# Altium footprint library SparkFun-Boards.PCBLIB: 38 footprints (part 1 of 3)
Each footprint in its own frame and in the unit in brackets; x right, y up, seen from the top. Pads: shape width x height; smd on the part's side, far side on the other; paste and mask are expansions set on the pad; w line width, h text height; cw(c..) or ccw(c..) is an arc to the next point about the centre after c.
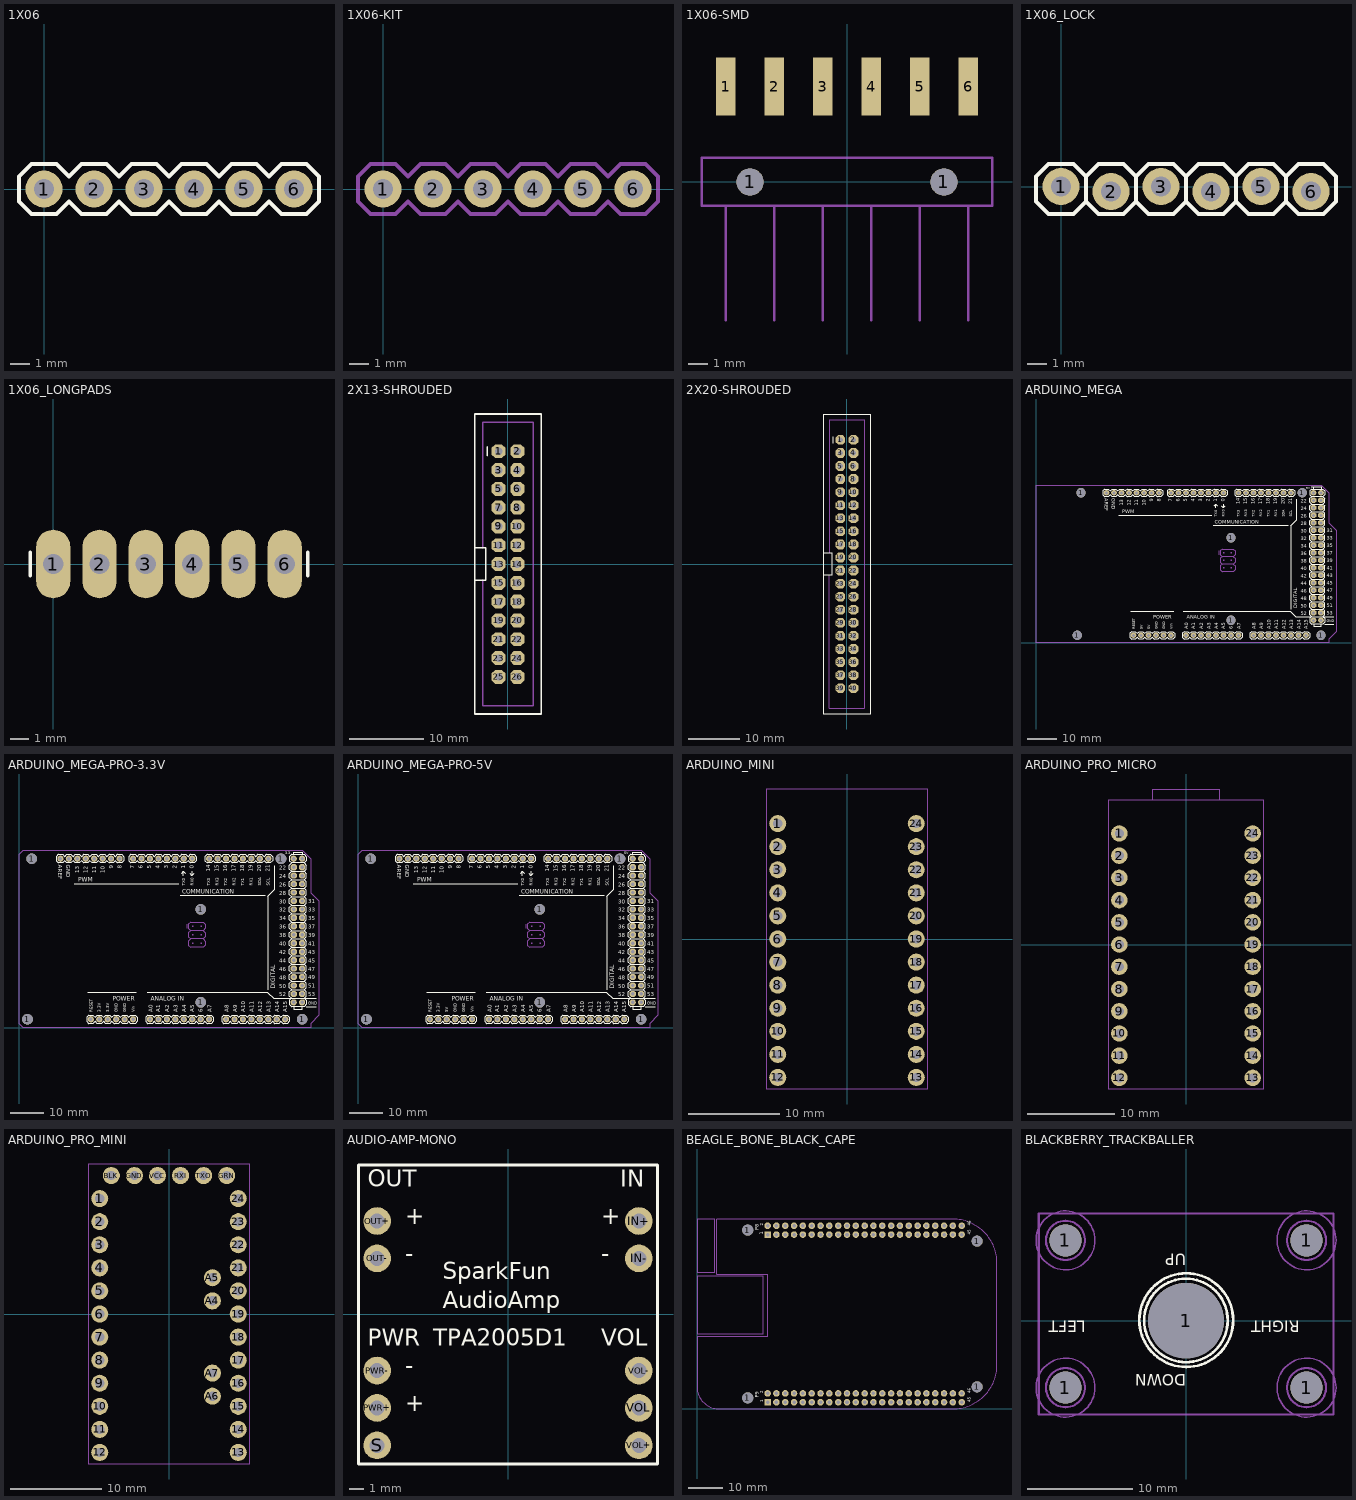
[diagram p0: the footprints below, top view; thin cyan lines are the x and y axes]

## 1X06 [mil]
pads (6):
  round 74 hole 40: 1(0,0) 2(100,0) 3(200,0) 4(300,0) 5(400,0) 6(500,0)
Top Overlay:
  lines w8: -50,-25 -50,25 -25,50 25,50 50,25 75,50 125,50 150,25 175,50 225,50 250,25 275,50 325,50 350,25 375,50 425,50 450,25 475,50 525,50 550,25 550,-25 525,-50 475,-50 450,-25 425,-50 375,-50 350,-25 325,-50 275,-50 250,-25 225,-50 175,-50 150,-25 125,-50 75,-50 50,-25 25,-50 -25,-50 -50,-25
Mechanical 16:
  rectangle: 490,-10 510,10
  rectangle: 390,-10 410,10
  rectangle: 290,-10 310,10
  rectangle: 190,-10 210,10
  rectangle: 90,-10 110,10
  rectangle: -10,-10 10,10

## 1X06-KIT [mil]
pads (6):
  round 74 hole 40: 1(0,0) 2(100,0) 3(200,0) 4(300,0) 5(400,0) 6(500,0)
Top Solder:
  region: 0,0 10,0 10,10 0,10
  region: 0,0 10,0 10,10 0,10
  region: 0,0 10,0 10,10 0,10
  region: 0,0 10,0 10,10 0,10
  region: 0,0 10,0 10,10 0,10
  region: 0,0 10,0 10,10 0,10
Bottom Solder:
  region: 0,0 10,0 10,10 0,10
  region: 0,0 10,0 10,10 0,10
  region: 0,0 10,0 10,10 0,10
  region: 0,0 10,0 10,10 0,10
  region: 0,0 10,0 10,10 0,10
  region: 0,0 10,0 10,10 0,10
Mechanical 16:
  rectangle: 490,-10 510,10
  rectangle: 390,-10 410,10
  rectangle: 290,-10 310,10
  rectangle: 190,-10 210,10
  rectangle: 90,-10 110,10
  rectangle: -10,-10 10,10
  lines w8: -50,-25 -50,25 -25,50 25,50 50,25 75,50 125,50 150,25 175,50 225,50 250,25 275,50 325,50 350,25 375,50 425,50 450,25 475,50 525,50 550,25 550,-25 525,-50 475,-50 450,-25 425,-50 375,-50 350,-25 325,-50 275,-50 250,-25 225,-50 175,-50 150,-25 125,-50 75,-50 50,-25 25,-50 -25,-50 -50,-25

## 1X06-SMD [mil]
pads (8):
  rect 40x119 smd: 1(-250,197) 2(-150,197) 3(-50,197) 4(50,197) 5(150,197) 6(250,197)
  round 56 hole 56: 1(-200,0) 1(200,0)
Mechanical 16:
  lines w5: -250,-285.43 -250,-49.21 ; -150,-285.43 -150,-49.21 ; -50,-285.43 -50,-49.21 ; 50,-285.43 50,-49.21 ; 150,-285.43 150,-49.21 ; 250,-285.43 250,-49.21 ; -250,-49.21 -300,-49.21 -300,50 300,50 300,-49.21 250,-49.21 ; -250,-49.21 -150,-49.21 ; -150,-49.21 -50,-49.21 ; -50,-49.21 50,-49.21 ; 50,-49.21 150,-49.21 ; 150,-49.21 250,-49.21

## 1X06_LOCK [mil]
pads (6):
  round 74 hole 40: 1(0,0) 2(100,-10) 3(200,0) 4(300,-10) 5(400,0) 6(500,-10)
Top Overlay:
  lines w8: 50,-30 75,-55 125,-55 150,-30 ; 50,-30 25,-55 -25,-55 -50,-30 -50,20 -25,45 25,45 50,20 ; 50,-30 50,20 ; 50,20 75,45 125,45 150,20 ; 150,-30 175,-55 225,-55 250,-30 ; 150,-30 150,20 ; 150,20 175,45 225,45 250,20 ; 250,-30 275,-55 325,-55 350,-30 ; 250,-30 250,20 ; 250,20 275,45 325,45 350,20 ; 350,-30 375,-55 425,-55 450,-30 ; 350,-30 350,20 ; 350,20 375,45 425,45 450,20 ; 450,-30 475,-55 525,-55 550,-30 550,20 525,45 475,45 450,20 ; 450,-30 450,20
Mechanical 16:
  rectangle: -11.5,-16.5 12,7
  rectangle: 89,-16.5 112,7
  rectangle: 189,-16.5 212,7
  rectangle: 289,-16.5 312,7
  rectangle: 389,-16.5 412,7
  rectangle: 489,-16.5 512,7

## 1X06_LONGPADS [mil]
pads (6):
  oval 74x148 hole 44: 1(0,0) 2(100,0) 3(200,0) 4(300,0) 5(400,0) 6(500,0)
Top Overlay:
  lines w8: -50,-25 -50,25 ; 550,-25 550,25
Mechanical 16:
  rectangle: 490,-10 510,10
  rectangle: 390,-10 410,10
  rectangle: 290,-10 310,10
  rectangle: 190,-10 210,10
  rectangle: 90,-10 110,10
  rectangle: -10,-10 10,10

## 2X13-SHROUDED [mil]
pads (26):
  oct 74x74 hole 40: 1(-50,600) 2(50,600) 3(-50,500) 4(50,500) 5(-50,400) 6(50,400) 7(-50,300) 8(50,300) 9(-50,200) 10(50,200) 11(-50,100) 12(50,100) 13(-50,0) 14(50,0) 15(-50,-100) 16(50,-100) 17(-50,-200) 18(50,-200) 19(-50,-300) 20(50,-300) 21(-50,-400) 22(50,-400) 23(-50,-500) 24(50,-500) 25(-50,-600) 26(50,-600)
Top Overlay:
  lines w8: -109.25,575 -109.25,625 ; 174,798 -177.17,798 -177.17,87 ; 178,798 178,-797.64 -177.17,-797.64 -177.17,-86.61 ; -177.17,-86.61 -177.17,87 ; -177.17,-86.61 -118.11,-86.61 -118.11,87 -177.17,87
Mechanical 16:
  rectangle: -60,590 -40,610
  rectangle: 40,590 60,610
  rectangle: 40,490 60,510
  rectangle: -60,490 -40,510
  rectangle: 40,390 60,410
  rectangle: -60,390 -40,410
  rectangle: 40,290 60,310
  rectangle: -60,290 -40,310
  rectangle: 40,190 60,210
  rectangle: -60,190 -40,210
  rectangle: -60,290 -40,310
  rectangle: 40,290 60,310
  rectangle: -60,90 -40,110
  rectangle: 40,90 60,110
  rectangle: 40,-10 60,10
  rectangle: -60,-10 -40,10
  rectangle: 40,-110 60,-90
  rectangle: -60,-110 -40,-90
  rectangle: 40,-210 60,-190
  rectangle: -60,-210 -40,-190
  rectangle: 40,-310 60,-290
  rectangle: -60,-310 -40,-290
  rectangle: -60,-210 -40,-190
  rectangle: 40,-210 60,-190
  rectangle: 40,-410 60,-390
  rectangle: -60,-410 -40,-390
  rectangle: 40,-510 60,-490
  rectangle: -60,-510 -40,-490
  rectangle: 40,-610 60,-590
  rectangle: -60,-610 -40,-590
  rectangle: -60,-510 -40,-490
  rectangle: 40,-510 60,-490
  lines w8: -133.86,-86.61 -133.86,-754.33 134,-754.33 134,755 -133.86,755 -133.86,87

## 2X20-SHROUDED [mil]
pads (40):
  oct 74x74 hole 40: 1(-50,950) 2(50,950) 3(-50,850) 4(50,850) 5(-50,750) 6(50,750) 7(-50,650) 8(50,650) 9(-50,550) 10(50,550) 11(-50,450) 12(50,450) 13(-50,350) 14(50,350) 15(-50,250) 16(50,250) 17(-50,150) 18(50,150) 19(-50,50) 20(50,50) 21(-50,-50) 22(50,-50) 23(-50,-150) 24(50,-150) 25(-50,-250) 26(50,-250) 27(-50,-350) 28(50,-350) 29(-50,-450) 30(50,-450) 31(-50,-550) 32(50,-550) 33(-50,-650) 34(50,-650) 35(-50,-750) 36(50,-750) 37(-50,-850) 38(50,-850) 39(-50,-950) 40(50,-950)
Top Overlay:
  lines w8: -177.17,-86.61 -118.11,-86.61 -118.11,87 -177.17,87 ; -109.25,925 -109.25,975 ; 174,1148 -177.17,1148 -177.17,-1147.64 178,-1147.64 178,1148
Mechanical 16:
  rectangle: -60,940 -40,960
  rectangle: 40,940 60,960
  rectangle: 40,840 60,860
  rectangle: -60,840 -40,860
  rectangle: 40,740 60,760
  rectangle: -60,740 -40,760
  rectangle: 40,640 60,660
  rectangle: -60,640 -40,660
  rectangle: 40,540 60,560
  rectangle: -60,540 -40,560
  rectangle: -60,640 -40,660
  rectangle: 40,640 60,660
  rectangle: -60,440 -40,460
  rectangle: 40,440 60,460
  rectangle: 40,340 60,360
  rectangle: -60,340 -40,360
  rectangle: 40,240 60,260
  rectangle: -60,240 -40,260
  rectangle: 40,140 60,160
  rectangle: -60,140 -40,160
  rectangle: 40,40 60,60
  rectangle: -60,40 -40,60
  rectangle: -60,140 -40,160
  rectangle: 40,140 60,160
  rectangle: 40,-60 60,-40
  rectangle: -60,-60 -40,-40
  rectangle: 40,-160 60,-140
  rectangle: -60,-160 -40,-140
  rectangle: 40,-260 60,-240
  rectangle: -60,-260 -40,-240
  rectangle: -60,-160 -40,-140
  rectangle: 40,-160 60,-140
  rectangle: 40,-360 60,-340
  rectangle: 40,-460 60,-440
  rectangle: 40,-560 60,-540
  rectangle: 40,-660 60,-640
  rectangle: 40,-760 60,-740
  rectangle: 40,-860 60,-840
  rectangle: 40,-960 60,-940
  rectangle: -60,-360 -40,-340
  rectangle: -60,-460 -40,-440
  rectangle: -60,-560 -40,-540
  rectangle: -60,-660 -40,-640
  rectangle: -60,-760 -40,-740
  rectangle: -60,-860 -40,-840
  rectangle: -60,-960 -40,-940
  lines w8: -133.86,-86.61 -133.86,-1104.33 134,-1104.33 134,1105 -133.86,1105 -133.86,87

## ARDUINO_MEGA [mil]
pads (88):
  round 74 hole 40: 0(2500,2000) 1(2400,2000) 2(2300,2000) 3(2200,2000) 3.3V(1400,100) 4(2100,2000) 5(2000,2000) 5V@0(1500,100) 5V@1(3700,2000) 5V@2(3800,2000) 6(1900,2000) 7(1800,2000) 8(1640,2000) 9(1540,2000) 10(1440,2000) 11(1340,2000) 12(1240,2000) 13(1140,2000) 14(2700,2000) 15(2800,2000) 16(2900,2000) 17(3000,2000) 18(3100,2000) 19(3200,2000) 20(3300,2000) 21(3400,2000) A0(2000,100) A1(2100,100) A2(2200,100) A3(2300,100) A4(2400,100) A5(2500,100) A6(2600,100) A7(2700,100) A8(2900,100) A9(3000,100) A10(3100,100) A11(3200,100) A12(3300,100) A13(3400,100) A14(3500,100) A15(3600,100) AREF(940,2000) GND@0(1600,100) GND@1(1700,100) GND@2(3700,300) GND@3(3800,300) GND@4(1040,2000) RESET(1300,100) VIN(1800,100)
  round 126 hole 126: 1(550,100) 1(600,2000) 1(2600,300) 1(2600,1400) 1(3550,2000) 1(3800,100)
  oct 74x74 hole 40: 22(3700,1900) 23(3800,1900) 24(3700,1800) 25(3800,1800) 26(3700,1700) 27(3800,1700) 28(3700,1600) 29(3800,1600) 30(3700,1500) 31(3800,1500) 32(3700,1400) 33(3800,1400) 34(3700,1300) 35(3800,1300) 36(3700,1200) 37(3800,1200) 38(3700,1100) 39(3800,1100) 40(3700,1000) 41(3800,1000) 42(3700,900) 43(3800,900) 44(3700,800) 45(3800,800) 46(3700,700) 47(3800,700) 48(3700,600) 49(3800,600) 50(3700,500) 51(3800,500) 52(3700,400) 53(3800,400)
Top Overlay:
  drawing of 438 lines, arcs and shapes, not listed
  text "0" at 2515,1880 h47.6
  text "1" at 2415,1880 h47.6
  text "2" at 2315,1880 h47.6
  text "3" at 2215,1880 h47.6
  text "4" at 2115,1880 h47.6
  text "5" at 2015,1880 h47.6
  text "6" at 1915,1880 h47.6
  text "7" at 1815,1880 h47.6
  text "8" at 1665,1880 h47.6
  text "9" at 1565,1880 h47.6
  text "10" at 1465,1830 h47.6
  text "11" at 1365,1830 h47.6
  text "12" at 1265,1830 h47.6
  text "13" at 1165,1830 h47.6
  text "14" at 2715,1845 h47.6
  text "15" at 2815,1845 h47.6
  text "16" at 2915,1845 h47.6
  text "17" at 3015,1845 h47.6
  text "18" at 3115,1845 h47.6
  text "19" at 3215,1845 h47.6
  text "20" at 3315,1845 h47.6
  text "21" at 3415,1845 h47.6
  text "22" at 3531,1870 h47.6
  text "24" at 3531,1770 h47.6
  text "26" at 3531,1670 h47.6
  text "28" at 3531,1570 h47.6
  text "30" at 3531,1470 h47.6
  text "32" at 3531,1370 h47.6
  text "34" at 3531,1270 h47.6
  text "36" at 3531,1170 h47.6
  text "38" at 3531,1070 h47.6
  text "40" at 3531,970 h47.6
  text "42" at 3531,870 h47.6
  text "44" at 3531,770 h47.6
  text "46" at 3531,670 h47.6
  text "50" at 3531,470 h47.6
  text "48" at 3531,570 h47.6
  text "52" at 3531,370 h47.6
  text "31" at 3875,1471 h47.6
  text "33" at 3875,1371 h47.6
  text "35" at 3875,1271 h47.6
  text "37" at 3875,1171 h47.6
  text "39" at 3875,1071 h47.6
  text "41" at 3875,971 h47.6
  text "43" at 3875,871 h47.6
  text "45" at 3875,771 h47.6
  text "47" at 3875,671 h47.6
  text "49" at 3875,571 h47.6
  text "51" at 3875,471 h47.6
  text "53" at 3875,371 h47.6
  text "A0" at 2030,181 h47.6
  text "A1" at 2120,181 h47.6
  text "A2" at 2230,181 h47.6
  text "A3" at 2330,181 h47.6
  text "A4" at 2430,181 h47.6
  text "A5" at 2525,181 h47.6
  text "6" at 2625,181 h47.6
  text "A7" at 2730,181 h47.6
  text "A8" at 2930,181 h47.6
  text "A9" at 3030,181 h47.6
  text "A10" at 3130,181 h47.6
  text "A11" at 3230,181 h47.6
  text "A12" at 3330,181 h47.6
  text "A13" at 3430,181 h47.6
  text "A14" at 3530,181 h47.6
  text "A15" at 3625,181 h47.6
  text "ANALOG IN" at 2010,320 h51
  text "COMMUNICATION" at 2380,1585 h51
  text "DIGITAL" at 3485,460 h51
  text "GND" at 3875,271 h34
  text "TX0" at 2415,1680 h34
  text "RX0" at 2515,1680 h34
  text "PWM" at 1150,1725 h51
  text "TX3" at 2715,1680 h34
  text "RX3" at 2815,1680 h34
  text "TX2" at 2915,1680 h34
  text "RX2" at 3015,1680 h34
  text "TX1" at 3115,1680 h34
  text "RX1" at 3215,1680 h34
  text "SDA" at 3315,1680 h34
  text "SCL" at 3415,1680 h34
  text "POWER" at 1560,320 h51
  text "RESET" at 1320,181 h34
  text "5V" at 1420,181 h34
  text "5V" at 1520,181 h34
  text "GND" at 1620,181 h34
  text "GND" at 1720,181 h34
  text "Vin" at 1820,181 h34
  text "GND" at 1010,1930 h47.6
  text "AREF" at 915,1930 h47.6
  text "5V" at 3600,2050 h29.75
Mechanical 16:
  rectangle: 3490,90 3510,110
  rectangle: 3390,90 3410,110
  rectangle: 3290,90 3310,110
  rectangle: 3190,90 3210,110
  rectangle: 3090,90 3110,110
  rectangle: 2990,90 3010,110
  rectangle: 2890,90 2910,110
  rectangle: 3590,90 3610,110
  rectangle: 3290,1990 3310,2010
  rectangle: 3190,1990 3210,2010
  rectangle: 3090,1990 3110,2010
  rectangle: 2990,1990 3010,2010
  rectangle: 2890,1990 2910,2010
  rectangle: 2790,1990 2810,2010
  rectangle: 2690,1990 2710,2010
  rectangle: 3390,1990 3410,2010
  rectangle: 2590,90 2610,110
  rectangle: 2490,90 2510,110
  rectangle: 2390,90 2410,110
  rectangle: 2290,90 2310,110
  rectangle: 2190,90 2210,110
  rectangle: 2090,90 2110,110
  rectangle: 1990,90 2010,110
  rectangle: 2690,90 2710,110
  rectangle: 2390,1990 2410,2010
  rectangle: 2290,1990 2310,2010
  rectangle: 2190,1990 2210,2010
  rectangle: 2090,1990 2110,2010
  rectangle: 1990,1990 2010,2010
  rectangle: 1890,1990 1910,2010
  rectangle: 1790,1990 1810,2010
  rectangle: 2490,1990 2510,2010
  rectangle: 1530,1990 1550,2010
  rectangle: 1430,1990 1450,2010
  rectangle: 1330,1990 1350,2010
  rectangle: 1230,1990 1250,2010
  rectangle: 1130,1990 1150,2010
  rectangle: 1030,1990 1050,2010
  rectangle: 930,1990 950,2010
  rectangle: 1630,1990 1650,2010
  region: 2495,1210 2495,1190 2515,1190 2515,1210
  region: 2595,1210 2595,1190 2615,1190 2615,1210
  region: 2595,1110 2595,1090 2615,1090 2615,1110
  region: 2495,1110 2495,1090 2515,1090 2515,1110
  region: 2595,1010 2595,990 2615,990 2615,1010
  region: 2495,1010 2495,990 2515,990 2515,1010
  region: 3810,1190 3810,1210 3790,1210 3790,1190
  region: 3710,1190 3710,1210 3690,1210 3690,1190
  region: 3710,1290 3710,1310 3690,1310 3690,1290
  region: 3810,1290 3810,1310 3790,1310 3790,1290
  region: 3710,1390 3710,1410 3690,1410 3690,1390
  region: 3810,1390 3810,1410 3790,1410 3790,1390
  region: 3710,1490 3710,1510 3690,1510 3690,1490
  region: 3710,1590 3710,1610 3690,1610 3690,1590
  region: 3710,1690 3710,1710 3690,1710 3690,1690
  region: 3810,1490 3810,1510 3790,1510 3790,1490
  region: 3810,1590 3810,1610 3790,1610 3790,1590
  region: 3810,1690 3810,1710 3790,1710 3790,1690
  region: 3710,1790 3710,1810 3690,1810 3690,1790
  region: 3810,1790 3810,1810 3790,1810 3790,1790
  region: 3710,1890 3710,1910 3690,1910 3690,1890
  region: 3810,1890 3810,1910 3790,1910 3790,1890
  region: 3810,390 3810,410 3790,410 3790,390
  region: 3710,390 3710,410 3690,410 3690,390
  region: 3710,490 3710,510 3690,510 3690,490
  region: 3810,490 3810,510 3790,510 3790,490
  region: 3710,590 3710,610 3690,610 3690,590
  region: 3810,590 3810,610 3790,610 3790,590
  region: 3710,690 3710,710 3690,710 3690,690
  region: 3710,790 3710,810 3690,810 3690,790
  region: 3710,890 3710,910 3690,910 3690,890
  region: 3810,690 3810,710 3790,710 3790,690
  region: 3810,790 3810,810 3790,810 3790,790
  region: 3810,890 3810,910 3790,910 3790,890
  region: 3710,990 3710,1010 3690,1010 3690,990
  region: 3810,990 3810,1010 3790,1010 3790,990
  region: 3710,1090 3710,1110 3690,1110 3690,1090
  region: 3810,1090 3810,1110 3790,1110 3790,1090
  rectangle: 3790,290 3810,310
  rectangle: 3690,290 3710,310
  rectangle: 3790,1990 3810,2010
  rectangle: 3690,1990 3710,2010
  rectangle: 1790,90 1810,110
  rectangle: 1690,90 1710,110
  rectangle: 1590,90 1610,110
  rectangle: 1490,90 1510,110
  rectangle: 1390,90 1410,110
  rectangle: 1290,90 1310,110
  lines w8: 2442,1175 2442,1225 ; 2480,1050 2455,1075 2455,1125 2480,1150 ; 2480,1050 2455,1025 2455,975 2480,950 2630,950 2655,975 2655,1025 2630,1050 ; 2480,1050 2630,1050 ; 2480,1150 2455,1175 2455,1225 2480,1250 2630,1250 2655,1225 2655,1175 2630,1150 ; 2480,1150 2630,1150 ; 2630,1050 2655,1075 2655,1125 2630,1150 ; 0,0 3900,0 3900,50 4000,150 4000,1500 3900,1600 3900,2000 3800,2100 0,2100 0,0

## ARDUINO_MEGA-PRO-3.3V [mil]
pads (88):
  round 74 hole 40: 0(2050,2000) 1(1950,2000) 2(1850,2000) 3(1750,2000) 3.3V(950,100) 4(1650,2000) 5(1550,2000) 5V@0(1050,100) 5V@1(3250,2000) 5V@2(3350,2000) 6(1450,2000) 7(1350,2000) 8(1190,2000) 9(1090,2000) 10(990,2000) 11(890,2000) 12(790,2000) 13(690,2000) 14(2250,2000) 15(2350,2000) 16(2450,2000) 17(2550,2000) 18(2650,2000) 19(2750,2000) 20(2850,2000) 21(2950,2000) A0(1550,100) A1(1650,100) A2(1750,100) A3(1850,100) A4(1950,100) A5(2050,100) A6(2150,100) A7(2250,100) A8(2450,100) A9(2550,100) A10(2650,100) A11(2750,100) A12(2850,100) A13(2950,100) A14(3050,100) A15(3150,100) AREF(490,2000) GND@0(1150,100) GND@1(1250,100) GND@2(3250,300) GND@3(3350,300) GND@4(590,2000) RESET(850,100) VIN(1350,100)
  round 126 hole 126: 1(100,100) 1(150,2000) 1(2150,300) 1(2150,1400) 1(3100,2000) 1(3350,100)
  oct 74x74 hole 40: 22(3250,1900) 23(3350,1900) 24(3250,1800) 25(3350,1800) 26(3250,1700) 27(3350,1700) 28(3250,1600) 29(3350,1600) 30(3250,1500) 31(3350,1500) 32(3250,1400) 33(3350,1400) 34(3250,1300) 35(3350,1300) 36(3250,1200) 37(3350,1200) 38(3250,1100) 39(3350,1100) 40(3250,1000) 41(3350,1000) 42(3250,900) 43(3350,900) 44(3250,800) 45(3350,800) 46(3250,700) 47(3350,700) 48(3250,600) 49(3350,600) 50(3250,500) 51(3350,500) 52(3250,400) 53(3350,400)
Top Overlay:
  drawing of 437 lines, arcs and shapes, not listed
  text "0" at 2065,1880 h47.6
  text "1" at 1965,1880 h47.6
  text "2" at 1865,1880 h47.6
  text "3" at 1765,1880 h47.6
  text "4" at 1665,1880 h47.6
  text "5" at 1565,1880 h47.6
  text "6" at 1465,1880 h47.6
  text "7" at 1365,1880 h47.6
  text "8" at 1215,1880 h47.6
  text "9" at 1115,1880 h47.6
  text "10" at 1015,1830 h47.6
  text "11" at 915,1830 h47.6
  text "12" at 815,1830 h47.6
  text "13" at 715,1830 h47.6
  text "14" at 2265,1845 h47.6
  text "15" at 2365,1845 h47.6
  text "16" at 2465,1845 h47.6
  text "17" at 2565,1845 h47.6
  text "18" at 2665,1845 h47.6
  text "19" at 2765,1845 h47.6
  text "20" at 2865,1845 h47.6
  text "21" at 2965,1845 h47.6
  text "22" at 3081,1870 h47.6
  text "24" at 3081,1770 h47.6
  text "26" at 3081,1670 h47.6
  text "28" at 3081,1570 h47.6
  text "30" at 3081,1470 h47.6
  text "32" at 3081,1370 h47.6
  text "34" at 3081,1270 h47.6
  text "36" at 3081,1170 h47.6
  text "38" at 3081,1070 h47.6
  text "40" at 3081,970 h47.6
  text "42" at 3081,870 h47.6
  text "44" at 3081,770 h47.6
  text "46" at 3081,670 h47.6
  text "50" at 3081,470 h47.6
  text "48" at 3081,570 h47.6
  text "52" at 3081,370 h47.6
  text "31" at 3425,1471 h47.6
  text "33" at 3425,1371 h47.6
  text "35" at 3425,1271 h47.6
  text "37" at 3425,1171 h47.6
  text "39" at 3425,1071 h47.6
  text "41" at 3425,971 h47.6
  text "43" at 3425,871 h47.6
  text "45" at 3425,771 h47.6
  text "47" at 3425,671 h47.6
  text "49" at 3425,571 h47.6
  text "51" at 3425,471 h47.6
  text "53" at 3425,371 h47.6
  text "A0" at 1580,181 h47.6
  text "A1" at 1670,181 h47.6
  text "A2" at 1780,181 h47.6
  text "A3" at 1880,181 h47.6
  text "A4" at 1980,181 h47.6
  text "A5" at 2075,181 h47.6
  text "6" at 2175,181 h47.6
  text "A7" at 2280,181 h47.6
  text "A8" at 2480,181 h47.6
  text "A9" at 2580,181 h47.6
  text "A10" at 2680,181 h47.6
  text "A11" at 2780,181 h47.6
  text "A12" at 2880,181 h47.6
  text "A13" at 2980,181 h47.6
  text "A14" at 3080,181 h47.6
  text "A15" at 3175,181 h47.6
  text "ANALOG IN" at 1560,320 h51
  text "COMMUNICATION" at 1930,1585 h51
  text "DIGITAL" at 3035,460 h51
  text "GND" at 3425,271 h34
  text "TX0" at 1965,1680 h34
  text "RX0" at 2065,1680 h34
  text "PWM" at 700,1725 h51
  text "TX3" at 2265,1680 h34
  text "RX3" at 2365,1680 h34
  text "TX2" at 2465,1680 h34
  text "RX2" at 2565,1680 h34
  text "TX1" at 2665,1680 h34
  text "RX1" at 2765,1680 h34
  text "SDA" at 2865,1680 h34
  text "SCL" at 2965,1680 h34
  text "POWER" at 1110,320 h51
  text "RESET" at 870,181 h34
  text "3.3V" at 970,181 h34
  text "3.3V" at 1070,181 h34
  text "GND" at 1170,181 h34
  text "GND" at 1270,181 h34
  text "Vin" at 1370,181 h34
  text "GND" at 560,1930 h47.6
  text "AREF" at 465,1930 h47.6
  text "3.3" at 3150,2050 h29.75
Mechanical 16:
  rectangle: 3040,90 3060,110
  rectangle: 2940,90 2960,110
  rectangle: 2840,90 2860,110
  rectangle: 2740,90 2760,110
  rectangle: 2640,90 2660,110
  rectangle: 2540,90 2560,110
  rectangle: 2440,90 2460,110
  rectangle: 3140,90 3160,110
  rectangle: 2840,1990 2860,2010
  rectangle: 2740,1990 2760,2010
  rectangle: 2640,1990 2660,2010
  rectangle: 2540,1990 2560,2010
  rectangle: 2440,1990 2460,2010
  rectangle: 2340,1990 2360,2010
  rectangle: 2240,1990 2260,2010
  rectangle: 2940,1990 2960,2010
  rectangle: 2140,90 2160,110
  rectangle: 2040,90 2060,110
  rectangle: 1940,90 1960,110
  rectangle: 1840,90 1860,110
  rectangle: 1740,90 1760,110
  rectangle: 1640,90 1660,110
  rectangle: 1540,90 1560,110
  rectangle: 2240,90 2260,110
  rectangle: 1940,1990 1960,2010
  rectangle: 1840,1990 1860,2010
  rectangle: 1740,1990 1760,2010
  rectangle: 1640,1990 1660,2010
  rectangle: 1540,1990 1560,2010
  rectangle: 1440,1990 1460,2010
  rectangle: 1340,1990 1360,2010
  rectangle: 2040,1990 2060,2010
  rectangle: 1080,1990 1100,2010
  rectangle: 980,1990 1000,2010
  rectangle: 880,1990 900,2010
  rectangle: 780,1990 800,2010
  rectangle: 680,1990 700,2010
  rectangle: 580,1990 600,2010
  rectangle: 480,1990 500,2010
  rectangle: 1180,1990 1200,2010
  region: 2045,1210 2045,1190 2065,1190 2065,1210
  region: 2145,1210 2145,1190 2165,1190 2165,1210
  region: 2145,1110 2145,1090 2165,1090 2165,1110
  region: 2045,1110 2045,1090 2065,1090 2065,1110
  region: 2145,1010 2145,990 2165,990 2165,1010
  region: 2045,1010 2045,990 2065,990 2065,1010
  region: 3360,1190 3360,1210 3340,1210 3340,1190
  region: 3260,1190 3260,1210 3240,1210 3240,1190
  region: 3260,1290 3260,1310 3240,1310 3240,1290
  region: 3360,1290 3360,1310 3340,1310 3340,1290
  region: 3260,1390 3260,1410 3240,1410 3240,1390
  region: 3360,1390 3360,1410 3340,1410 3340,1390
  region: 3260,1490 3260,1510 3240,1510 3240,1490
  region: 3260,1590 3260,1610 3240,1610 3240,1590
  region: 3260,1690 3260,1710 3240,1710 3240,1690
  region: 3360,1490 3360,1510 3340,1510 3340,1490
  region: 3360,1590 3360,1610 3340,1610 3340,1590
  region: 3360,1690 3360,1710 3340,1710 3340,1690
  region: 3260,1790 3260,1810 3240,1810 3240,1790
  region: 3360,1790 3360,1810 3340,1810 3340,1790
  region: 3260,1890 3260,1910 3240,1910 3240,1890
  region: 3360,1890 3360,1910 3340,1910 3340,1890
  region: 3360,390 3360,410 3340,410 3340,390
  region: 3260,390 3260,410 3240,410 3240,390
  region: 3260,490 3260,510 3240,510 3240,490
  region: 3360,490 3360,510 3340,510 3340,490
  region: 3260,590 3260,610 3240,610 3240,590
  region: 3360,590 3360,610 3340,610 3340,590
  region: 3260,690 3260,710 3240,710 3240,690
  region: 3260,790 3260,810 3240,810 3240,790
  region: 3260,890 3260,910 3240,910 3240,890
  region: 3360,690 3360,710 3340,710 3340,690
  region: 3360,790 3360,810 3340,810 3340,790
  region: 3360,890 3360,910 3340,910 3340,890
  region: 3260,990 3260,1010 3240,1010 3240,990
  region: 3360,990 3360,1010 3340,1010 3340,990
  region: 3260,1090 3260,1110 3240,1110 3240,1090
  region: 3360,1090 3360,1110 3340,1110 3340,1090
  rectangle: 3340,290 3360,310
  rectangle: 3240,290 3260,310
  rectangle: 3340,1990 3360,2010
  rectangle: 3240,1990 3260,2010
  rectangle: 1340,90 1360,110
  rectangle: 1240,90 1260,110
  rectangle: 1140,90 1160,110
  rectangle: 1040,90 1060,110
  rectangle: 940,90 960,110
  rectangle: 840,90 860,110
  lines w8: 1992,1175 1992,1225 ; 2030,1050 2005,1075 2005,1125 2030,1150 ; 2030,1050 2005,1025 2005,975 2030,950 2180,950 2205,975 2205,1025 2180,1050 ; 2030,1050 2180,1050 ; 2030,1150 2005,1175 2005,1225 2030,1250 2180,1250 2205,1225 2205,1175 2180,1150 ; 2030,1150 2180,1150 ; 2180,1050 2205,1075 2205,1125 2180,1150 ; 0,50 50,0 3450,0 3450,50 3550,150 3550,1500 3450,1600 3450,2000 3350,2100 50,2100 0,2050 0,50

## ARDUINO_MEGA-PRO-5V [mil]
pads (88):
  round 74 hole 40: 0(2050,2000) 1(1950,2000) 2(1850,2000) 3(1750,2000) 3.3V(950,100) 4(1650,2000) 5(1550,2000) 5V@0(1050,100) 5V@1(3250,2000) 5V@2(3350,2000) 6(1450,2000) 7(1350,2000) 8(1190,2000) 9(1090,2000) 10(990,2000) 11(890,2000) 12(790,2000) 13(690,2000) 14(2250,2000) 15(2350,2000) 16(2450,2000) 17(2550,2000) 18(2650,2000) 19(2750,2000) 20(2850,2000) 21(2950,2000) A0(1550,100) A1(1650,100) A2(1750,100) A3(1850,100) A4(1950,100) A5(2050,100) A6(2150,100) A7(2250,100) A8(2450,100) A9(2550,100) A10(2650,100) A11(2750,100) A12(2850,100) A13(2950,100) A14(3050,100) A15(3150,100) AREF(490,2000) GND@0(1150,100) GND@1(1250,100) GND@2(3250,300) GND@3(3350,300) GND@4(590,2000) RESET(850,100) VIN(1350,100)
  round 126 hole 126: 1(100,100) 1(150,2000) 1(2150,300) 1(2150,1400) 1(3100,2000) 1(3350,100)
  oct 74x74 hole 40: 22(3250,1900) 23(3350,1900) 24(3250,1800) 25(3350,1800) 26(3250,1700) 27(3350,1700) 28(3250,1600) 29(3350,1600) 30(3250,1500) 31(3350,1500) 32(3250,1400) 33(3350,1400) 34(3250,1300) 35(3350,1300) 36(3250,1200) 37(3350,1200) 38(3250,1100) 39(3350,1100) 40(3250,1000) 41(3350,1000) 42(3250,900) 43(3350,900) 44(3250,800) 45(3350,800) 46(3250,700) 47(3350,700) 48(3250,600) 49(3350,600) 50(3250,500) 51(3350,500) 52(3250,400) 53(3350,400)
Top Overlay:
  drawing of 437 lines, arcs and shapes, not listed
  text "0" at 2065,1880 h47.6
  text "1" at 1965,1880 h47.6
  text "2" at 1865,1880 h47.6
  text "3" at 1765,1880 h47.6
  text "4" at 1665,1880 h47.6
  text "5" at 1565,1880 h47.6
  text "6" at 1465,1880 h47.6
  text "7" at 1365,1880 h47.6
  text "8" at 1215,1880 h47.6
  text "9" at 1115,1880 h47.6
  text "10" at 1015,1830 h47.6
  text "11" at 915,1830 h47.6
  text "12" at 815,1830 h47.6
  text "13" at 715,1830 h47.6
  text "14" at 2265,1845 h47.6
  text "15" at 2365,1845 h47.6
  text "16" at 2465,1845 h47.6
  text "17" at 2565,1845 h47.6
  text "18" at 2665,1845 h47.6
  text "19" at 2765,1845 h47.6
  text "20" at 2865,1845 h47.6
  text "21" at 2965,1845 h47.6
  text "22" at 3081,1870 h47.6
  text "24" at 3081,1770 h47.6
  text "26" at 3081,1670 h47.6
  text "28" at 3081,1570 h47.6
  text "30" at 3081,1470 h47.6
  text "32" at 3081,1370 h47.6
  text "34" at 3081,1270 h47.6
  text "36" at 3081,1170 h47.6
  text "38" at 3081,1070 h47.6
  text "40" at 3081,970 h47.6
  text "42" at 3081,870 h47.6
  text "44" at 3081,770 h47.6
  text "46" at 3081,670 h47.6
  text "50" at 3081,470 h47.6
  text "48" at 3081,570 h47.6
  text "52" at 3081,370 h47.6
  text "31" at 3425,1471 h47.6
  text "33" at 3425,1371 h47.6
  text "35" at 3425,1271 h47.6
  text "37" at 3425,1171 h47.6
  text "39" at 3425,1071 h47.6
  text "41" at 3425,971 h47.6
  text "43" at 3425,871 h47.6
  text "45" at 3425,771 h47.6
  text "47" at 3425,671 h47.6
  text "49" at 3425,571 h47.6
  text "51" at 3425,471 h47.6
  text "53" at 3425,371 h47.6
  text "A0" at 1580,181 h47.6
  text "A1" at 1670,181 h47.6
  text "A2" at 1780,181 h47.6
  text "A3" at 1880,181 h47.6
  text "A4" at 1980,181 h47.6
  text "A5" at 2075,181 h47.6
  text "6" at 2175,181 h47.6
  text "A7" at 2280,181 h47.6
  text "A8" at 2480,181 h47.6
  text "A9" at 2580,181 h47.6
  text "A10" at 2680,181 h47.6
  text "A11" at 2780,181 h47.6
  text "A12" at 2880,181 h47.6
  text "A13" at 2980,181 h47.6
  text "A14" at 3080,181 h47.6
  text "A15" at 3175,181 h47.6
  text "ANALOG IN" at 1560,320 h51
  text "COMMUNICATION" at 1930,1585 h51
  text "DIGITAL" at 3035,460 h51
  text "GND" at 3425,271 h34
  text "TX0" at 1965,1680 h34
  text "RX0" at 2065,1680 h34
  text "PWM" at 700,1725 h51
  text "TX3" at 2265,1680 h34
  text "RX3" at 2365,1680 h34
  text "TX2" at 2465,1680 h34
  text "RX2" at 2565,1680 h34
  text "TX1" at 2665,1680 h34
  text "RX1" at 2765,1680 h34
  text "SDA" at 2865,1680 h34
  text "SCL" at 2965,1680 h34
  text "POWER" at 1110,320 h51
  text "RESET" at 870,181 h34
  text "3.3V" at 970,181 h34
  text "5V" at 1070,181 h34
  text "GND" at 1170,181 h34
  text "GND" at 1270,181 h34
  text "Vin" at 1370,181 h34
  text "GND" at 560,1930 h47.6
  text "AREF" at 465,1930 h47.6
  text "5V" at 3150,2050 h29.75
Mechanical 16:
  rectangle: 3040,90 3060,110
  rectangle: 2940,90 2960,110
  rectangle: 2840,90 2860,110
  rectangle: 2740,90 2760,110
  rectangle: 2640,90 2660,110
  rectangle: 2540,90 2560,110
  rectangle: 2440,90 2460,110
  rectangle: 3140,90 3160,110
  rectangle: 2840,1990 2860,2010
  rectangle: 2740,1990 2760,2010
  rectangle: 2640,1990 2660,2010
  rectangle: 2540,1990 2560,2010
  rectangle: 2440,1990 2460,2010
  rectangle: 2340,1990 2360,2010
  rectangle: 2240,1990 2260,2010
  rectangle: 2940,1990 2960,2010
  rectangle: 2140,90 2160,110
  rectangle: 2040,90 2060,110
  rectangle: 1940,90 1960,110
  rectangle: 1840,90 1860,110
  rectangle: 1740,90 1760,110
  rectangle: 1640,90 1660,110
  rectangle: 1540,90 1560,110
  rectangle: 2240,90 2260,110
  rectangle: 1940,1990 1960,2010
  rectangle: 1840,1990 1860,2010
  rectangle: 1740,1990 1760,2010
  rectangle: 1640,1990 1660,2010
  rectangle: 1540,1990 1560,2010
  rectangle: 1440,1990 1460,2010
  rectangle: 1340,1990 1360,2010
  rectangle: 2040,1990 2060,2010
  rectangle: 1080,1990 1100,2010
  rectangle: 980,1990 1000,2010
  rectangle: 880,1990 900,2010
  rectangle: 780,1990 800,2010
  rectangle: 680,1990 700,2010
  rectangle: 580,1990 600,2010
  rectangle: 480,1990 500,2010
  rectangle: 1180,1990 1200,2010
  region: 2045,1210 2045,1190 2065,1190 2065,1210
  region: 2145,1210 2145,1190 2165,1190 2165,1210
  region: 2145,1110 2145,1090 2165,1090 2165,1110
  region: 2045,1110 2045,1090 2065,1090 2065,1110
  region: 2145,1010 2145,990 2165,990 2165,1010
  region: 2045,1010 2045,990 2065,990 2065,1010
  region: 3360,1190 3360,1210 3340,1210 3340,1190
  region: 3260,1190 3260,1210 3240,1210 3240,1190
  region: 3260,1290 3260,1310 3240,1310 3240,1290
  region: 3360,1290 3360,1310 3340,1310 3340,1290
  region: 3260,1390 3260,1410 3240,1410 3240,1390
  region: 3360,1390 3360,1410 3340,1410 3340,1390
  region: 3260,1490 3260,1510 3240,1510 3240,1490
  region: 3260,1590 3260,1610 3240,1610 3240,1590
  region: 3260,1690 3260,1710 3240,1710 3240,1690
  region: 3360,1490 3360,1510 3340,1510 3340,1490
  region: 3360,1590 3360,1610 3340,1610 3340,1590
  region: 3360,1690 3360,1710 3340,1710 3340,1690
  region: 3260,1790 3260,1810 3240,1810 3240,1790
  region: 3360,1790 3360,1810 3340,1810 3340,1790
  region: 3260,1890 3260,1910 3240,1910 3240,1890
  region: 3360,1890 3360,1910 3340,1910 3340,1890
  region: 3360,390 3360,410 3340,410 3340,390
  region: 3260,390 3260,410 3240,410 3240,390
  region: 3260,490 3260,510 3240,510 3240,490
  region: 3360,490 3360,510 3340,510 3340,490
  region: 3260,590 3260,610 3240,610 3240,590
  region: 3360,590 3360,610 3340,610 3340,590
  region: 3260,690 3260,710 3240,710 3240,690
  region: 3260,790 3260,810 3240,810 3240,790
  region: 3260,890 3260,910 3240,910 3240,890
  region: 3360,690 3360,710 3340,710 3340,690
  region: 3360,790 3360,810 3340,810 3340,790
  region: 3360,890 3360,910 3340,910 3340,890
  region: 3260,990 3260,1010 3240,1010 3240,990
  region: 3360,990 3360,1010 3340,1010 3340,990
  region: 3260,1090 3260,1110 3240,1110 3240,1090
  region: 3360,1090 3360,1110 3340,1110 3340,1090
  rectangle: 3340,290 3360,310
  rectangle: 3240,290 3260,310
  rectangle: 3340,1990 3360,2010
  rectangle: 3240,1990 3260,2010
  rectangle: 1340,90 1360,110
  rectangle: 1240,90 1260,110
  rectangle: 1140,90 1160,110
  rectangle: 1040,90 1060,110
  rectangle: 940,90 960,110
  rectangle: 840,90 860,110
  lines w8: 1992,1175 1992,1225 ; 2030,1050 2005,1075 2005,1125 2030,1150 ; 2030,1050 2005,1025 2005,975 2030,950 2180,950 2205,975 2205,1025 2180,1050 ; 2030,1050 2180,1050 ; 2030,1150 2005,1175 2005,1225 2030,1250 2180,1250 2205,1225 2205,1175 2180,1150 ; 2030,1150 2180,1150 ; 2180,1050 2205,1075 2205,1125 2180,1150 ; 0,50 50,0 3450,0 3450,50 3550,150 3550,1500 3450,1600 3450,2000 3350,2100 50,2100 0,2050 0,50

## ARDUINO_MINI [mil]
pads (24):
  round 74 hole 40: 1(-300,500) 2(-300,400) 3(-300,300) 4(-300,200) 5(-300,100) 6(-300,0) 7(-300,-100) 8(-300,-200) 9(-300,-300) 10(-300,-400) 11(-300,-500) 12(-300,-600) 13(300,-600) 14(300,-500) 15(300,-400) 16(300,-300) 17(300,-200) 18(300,-100) 19(300,0) 20(300,100) 21(300,200) 22(300,300) 23(300,400) 24(300,500)
Mechanical 16:
  lines w5: -350,-650 -350,650 350,650 350,-650 -350,-650

## ARDUINO_PRO_MICRO [mil]
pads (24):
  round 74 hole 40: 1(-300,500) 2(-300,400) 3(-300,300) 4(-300,200) 5(-300,100) 6(-300,0) 7(-300,-100) 8(-300,-200) 9(-300,-300) 10(-300,-400) 11(-300,-500) 12(-300,-600) 13(300,-600) 14(300,-500) 15(300,-400) 16(300,-300) 17(300,-200) 18(300,-100) 19(300,0) 20(300,100) 21(300,200) 22(300,300) 23(300,400) 24(300,500)
Mechanical 16:
  lines w5: -150,650 -150,700 150,700 150,650 ; -350,-650 -350,650 350,650 350,-650 -350,-650

## ARDUINO_PRO_MINI [mil]
pads (34):
  round 74 hole 40: 1(-300,500) 2(-300,400) 3(-300,300) 4(-300,200) 5(-300,100) 6(-300,0) 7(-300,-100) 8(-300,-200) 9(-300,-300) 10(-300,-400) 11(-300,-500) 12(-300,-600) 13(300,-600) 14(300,-500) 15(300,-400) 16(300,-300) 17(300,-200) 18(300,-100) 19(300,0) 20(300,100) 21(300,200) 22(300,300) 23(300,400) 24(300,500) A4(188,57) A5(188,157) A6(188,-356.25) A7(188,-256.25) BLK(-250,600) GND(-150,600) GRN(250,600) RXI(50,600) TXO(150,600) VCC(-50,600)
Mechanical 16:
  lines w5: -350,-650 -350,650 350,650 350,-650 -350,-650

## AUDIO-AMP-MONO [mil]
pads (10):
  round 74 hole 40: IN+(350,250) IN-(350,150) OUT+(-350,250) OUT-(-350,150) PWR+(-350,-250) PWR-(-350,-150) S(-350,-350) VOL(350,-250) VOL+(350,-350) VOL-(350,-150)
Top Overlay:
  lines w8: -400,-400 400,-400 400,400 -400,400 -400,-400
  text "SparkFun" at -175,77.5 h77.5
  text "AudioAmp" at -175,0 h77.5
  text "TPA2005D1" at -200,-100 h77.5
  text "OUT" at -375,325 h77.5
  text "IN" at 300,325 h77.5
  text "+" at 250,225 h77.5
  text "-" at 250,125 h77.5
  text "-" at -275,125 h77.5
  text "+" at -275,225 h77.5
  text "PWR" at -375,-100 h77.5
  text "VOL" at 250,-100 h77.5
  text "+" at -275,-275 h77.5
  text "-" at -275,-175 h77.5

## BEAGLE_BONE_BLACK_CAPE [mil]
pads (96):
  round 125 hole 125: 1(575,125) 1(575,2025) 1(3175,250) 1(3175,1900)
  rect 74x74 hole 40: P8.1(800,1975) P9.1(800,75)
  round 74 hole 40: P8.2(800,2075) P8.3(900,1975) P8.4(900,2075) P8.5(1000,1975) P8.6(1000,2075) P8.7(1100,1975) P8.8(1100,2075) P8.9(1200,1975) P8.10(1200,2075) P8.11(1300,1975) P8.12(1300,2075) P8.13(1400,1975) P8.14(1400,2075) P8.15(1500,1975) P8.16(1500,2075) P8.17(1600,1975) P8.18(1600,2075) P8.19(1700,1975) P8.20(1700,2075) P8.21(1800,1975) P8.22(1800,2075) P8.23(1900,1975) P8.24(1900,2075) P8.25(2000,1975) P8.26(2000,2075) P8.27(2100,1975) P8.28(2100,2075) P8.29(2200,1975) P8.30(2200,2075) P8.31(2300,1975) P8.32(2300,2075) P8.33(2400,1975) P8.34(2400,2075) P8.35(2500,1975) P8.36(2500,2075) P8.37(2600,1975) P8.38(2600,2075) P8.39(2700,1975) P8.40(2700,2075) P8.41(2800,1975) P8.42(2800,2075) P8.43(2900,1975) P8.44(2900,2075) P8.45(3000,1975) P8.46(3000,2075) P9.2(800,175) P9.3(900,75) P9.4(900,175) P9.5(1000,75) P9.6(1000,175) P9.7(1100,75) P9.8(1100,175) P9.9(1200,75) P9.10(1200,175) P9.11(1300,75) P9.12(1300,175) P9.13(1400,75) P9.14(1400,175) P9.15(1500,75) P9.16(1500,175) P9.17(1600,75) P9.18(1600,175) P9.19(1700,75) P9.20(1700,175) P9.21(1800,75) P9.22(1800,175) P9.23(1900,75) P9.24(1900,175) P9.25(2000,75) P9.26(2000,175) P9.27(2100,75) P9.28(2100,175) P9.29(2200,75) P9.30(2200,175) P9.31(2300,75) P9.32(2300,175) P9.33(2400,75) P9.34(2400,175) P9.35(2500,75) P9.36(2500,175) P9.37(2600,75) P9.38(2600,175) P9.39(2700,75) P9.40(2700,175) P9.41(2800,75) P9.42(2800,175) P9.43(2900,75) P9.44(2900,175) P9.45(3000,75) P9.46(3000,175)
Top Overlay:
  text "1" at 750,1975 h42.5
  text "2" at 750,2075 h34
  text "P8" at 700,2025 h42.5
  text "45" at 3100,1975 h34
  text "46" at 3100,2075 h34
  text "46" at 3100,175 h34
  text "45" at 3100,75 h34
  text "1" at 750,75 h34
  text "2" at 750,175 h34
  text "P9" at 700,125 h42.5
Bottom Overlay:
  text "P8" at 700,2025 h42.5
  text "P9" at 700,125 h42.5
  text "1" at 750,1975 h42.5
  text "1" at 750,75 h34
  text "2" at 750,175 h34
  text "2" at 750,2075 h34
  text "46" at 3100,2075 h34
  text "45" at 3100,1975 h34
  text "45" at 3100,75 h34
  text "46" at 3100,175 h34
Mechanical 13:
  lines w5: 0,850 750,850 750,1500 0,1500 0,850 ; 0,1550 200,1550 200,2150 0,2150 0,1550
  text "Ethernet" at 300,1200 h42.5
  text "LED/Button" at 100,1850 h42.5
  text "Cutout" at 450,1200 h42.5
Mechanical 16:
  lines w5: 0,250 ccw(c250,250) 250,0 2900,0 ccw(c2900,500) 3400,500 3400,1650 ccw(c2900,1650) 2900,2150 225,2150 225,1525 800,1525 800,825 0,825 0,250

## BLACKBERRY_TRACKBALLER [mil]
pads (5):
  round 120 hole 120: 1(-450,-250) 1(-450,300) 1(450,-250) 1(450,300)
  round 282 hole 282: 1(0,0)
Top Overlay:
  circle w10: c-0.3,1 r156
  circle w10: c1,2 r175
  region: 0,0 10,0 10,10 0,10
  region: 0,0 10,0 10,10 0,10
  text "UP" at 0,250 h42.5
  text "RIGHT" at 425,0 h42.5
  text "LEFT" at -375,0 h42.5
  text "DOWN" at 0,-200 h42.5
Mechanical 1:
  lines w8: -550,-350 550,-350 550,400 -550,400 -550,-350
Mechanical 8:
  lines w8: -450,-323 ccw(c-450,-250) -450,-177 ccw(c-450,-250) -450,-323 ; -450,227 ccw(c-450,300) -450,373 ccw(c-450,300) -450,227 ; 450,-323 ccw(c450,-250) 450,-177 ccw(c450,-250) 450,-323 ; 450,227 ccw(c450,300) 450,373 ccw(c450,300) 450,227
Mechanical 9:
  lines w8: -450,-323 ccw(c-450,-250) -450,-177 ccw(c-450,-250) -450,-323 ; -450,227 ccw(c-450,300) -450,373 ccw(c-450,300) -450,227 ; 450,-323 ccw(c450,-250) 450,-177 ccw(c450,-250) 450,-323 ; 450,227 ccw(c450,300) 450,373 ccw(c450,300) 450,227
Mechanical 27:
  circle w5: c-450,300 r110
  circle w5: c450,300 r110
  circle w5: c-450,-250 r110
  circle w5: c450,-250 r110